# EAGLE library part THROUHOLE11 (library pinhead-half-pitch)
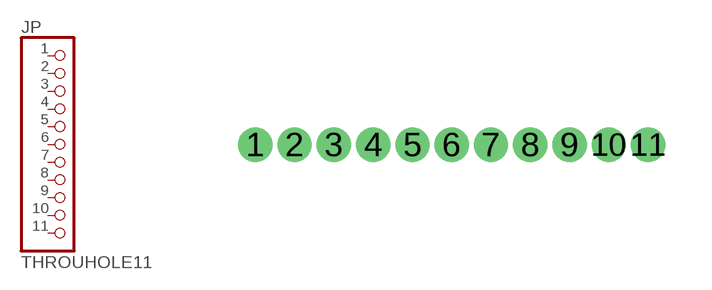
[diagram p0: symbol with the pads of THROUHOLE11; footprint THROUHOLE11]

Designator prefix JP

## THROUHOLE11  [THROUHOLE11]
1  1  pas
2  2  pas
3  3  pas
4  4  pas
5  5  pas
6  6  pas
7  7  pas
8  8  pas
9  9  pas
10  10  pas
11  11  pas

## Footprint THROUHOLE11 (pad centres in mm)
drill 0.6: 1 -6.35,0; 2 -5.08,0; 3 -3.81,0; 4 -2.54,0; 5 -1.27,0; 6 0,0; 7 1.27,0; 8 2.54,0; 9 3.81,0; 10 5.08,0; 11 6.35,0